# EAGLE library part 22-28-4080 (library 22-28-4080-CN6)
MOLEX - 22-28-4080 - CONNECTOR, HEADER, 8POS, 1ROW, 2.54MM
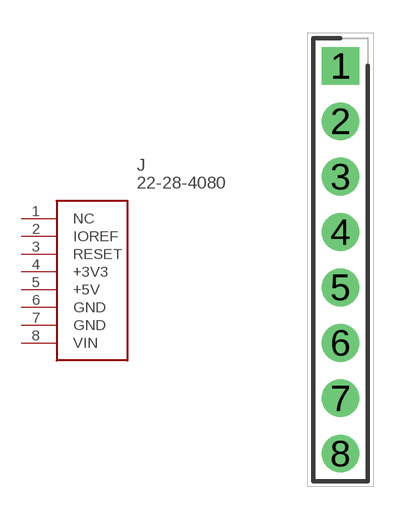
[diagram p0: symbol with the pads of HDRV6W66P0X254_1X6_1524X249X83; footprint HDRV6W66P0X254_1X6_1524X249X83]

Designator prefix J

## 22-28-4080  [HDRV6W66P0X254_1X6_1524X249X83]
1  NC  nc
2  IOREF  nc
3  RESET  nc
4  +3V3  pwr
5  +5V  pwr
6  GND  pwr
7  GND  pwr
8  VIN  nc

## Footprint HDRV6W66P0X254_1X6_1524X249X83 (pad centres in mm)
22-28-4060
drill 1.15 pad 1.725 square: 1 0,8.89
drill 1.15 pad 1.725: 2 0,6.35; 3 0,3.81; 4 0,1.27; 5 0,-1.27; 6 0,-3.81; 7 0,-6.35; 8 0,-8.89